# EAGLE library part WS2801 (library PP_DigitalIC)
Manufacturer Part #: WS2801 Manufacturer: Worldsemi Description: 3-Channel Constant Current LED Driver With Programmable PWM Outputs
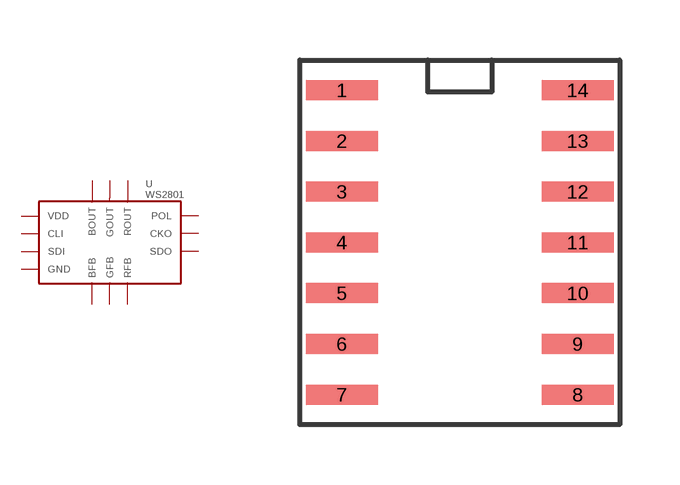
[diagram p17: symbol with the pads of WS2801_SOP-14; footprint WS2801_SOP-14]

Designator prefix U

## WS2801SO  [WS2801_SOP-14]
1  CLI
2  SDI
3  POL
4  RFB
5  GFB
6  BFB
7  GND
8  BOUT
9  GOUT
10  ROUT
12  SDO
13  CKO
14  VDD

## Footprint WS2801_SOP-14 (pad centres in mm)
smd 1.8 x 0.5: 1 -2.95,3.81; 2 -2.95,2.54; 3 -2.95,1.27; 4 -2.95,0; 5 -2.95,-1.27; 6 -2.95,-2.54; 7 -2.95,-3.81; 8 2.95,-3.81; 9 2.95,-2.54; 10 2.95,-1.27; 11 2.95,0; 12 2.95,1.27; 13 2.95,2.54; 14 2.95,3.81